# Altium schematic symbol library MPY634 Lib.SchLib: 1 symbol
Pins are listed as number, name and electrical type; pins without a type are passive.

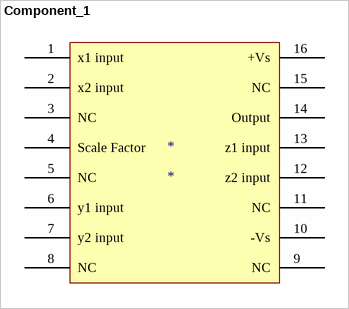
[diagram p0: symbol Component_1]

## Component_1
designator *
pins: 1 x1 input, 2 x2 input, 3 NC, 4 Scale Factor, 5 NC, 6 y1 input, 7 y2 input, 8 NC, 9 NC, 10 -Vs, 11 NC, 12 z2 input, 13 z1 input, 14 Output, 15 NC, 16 +Vs